# Altium integrated library Analog Devices Interface and Isolation Protection Products.IntLib: 92 symbols (part 3 of 5)
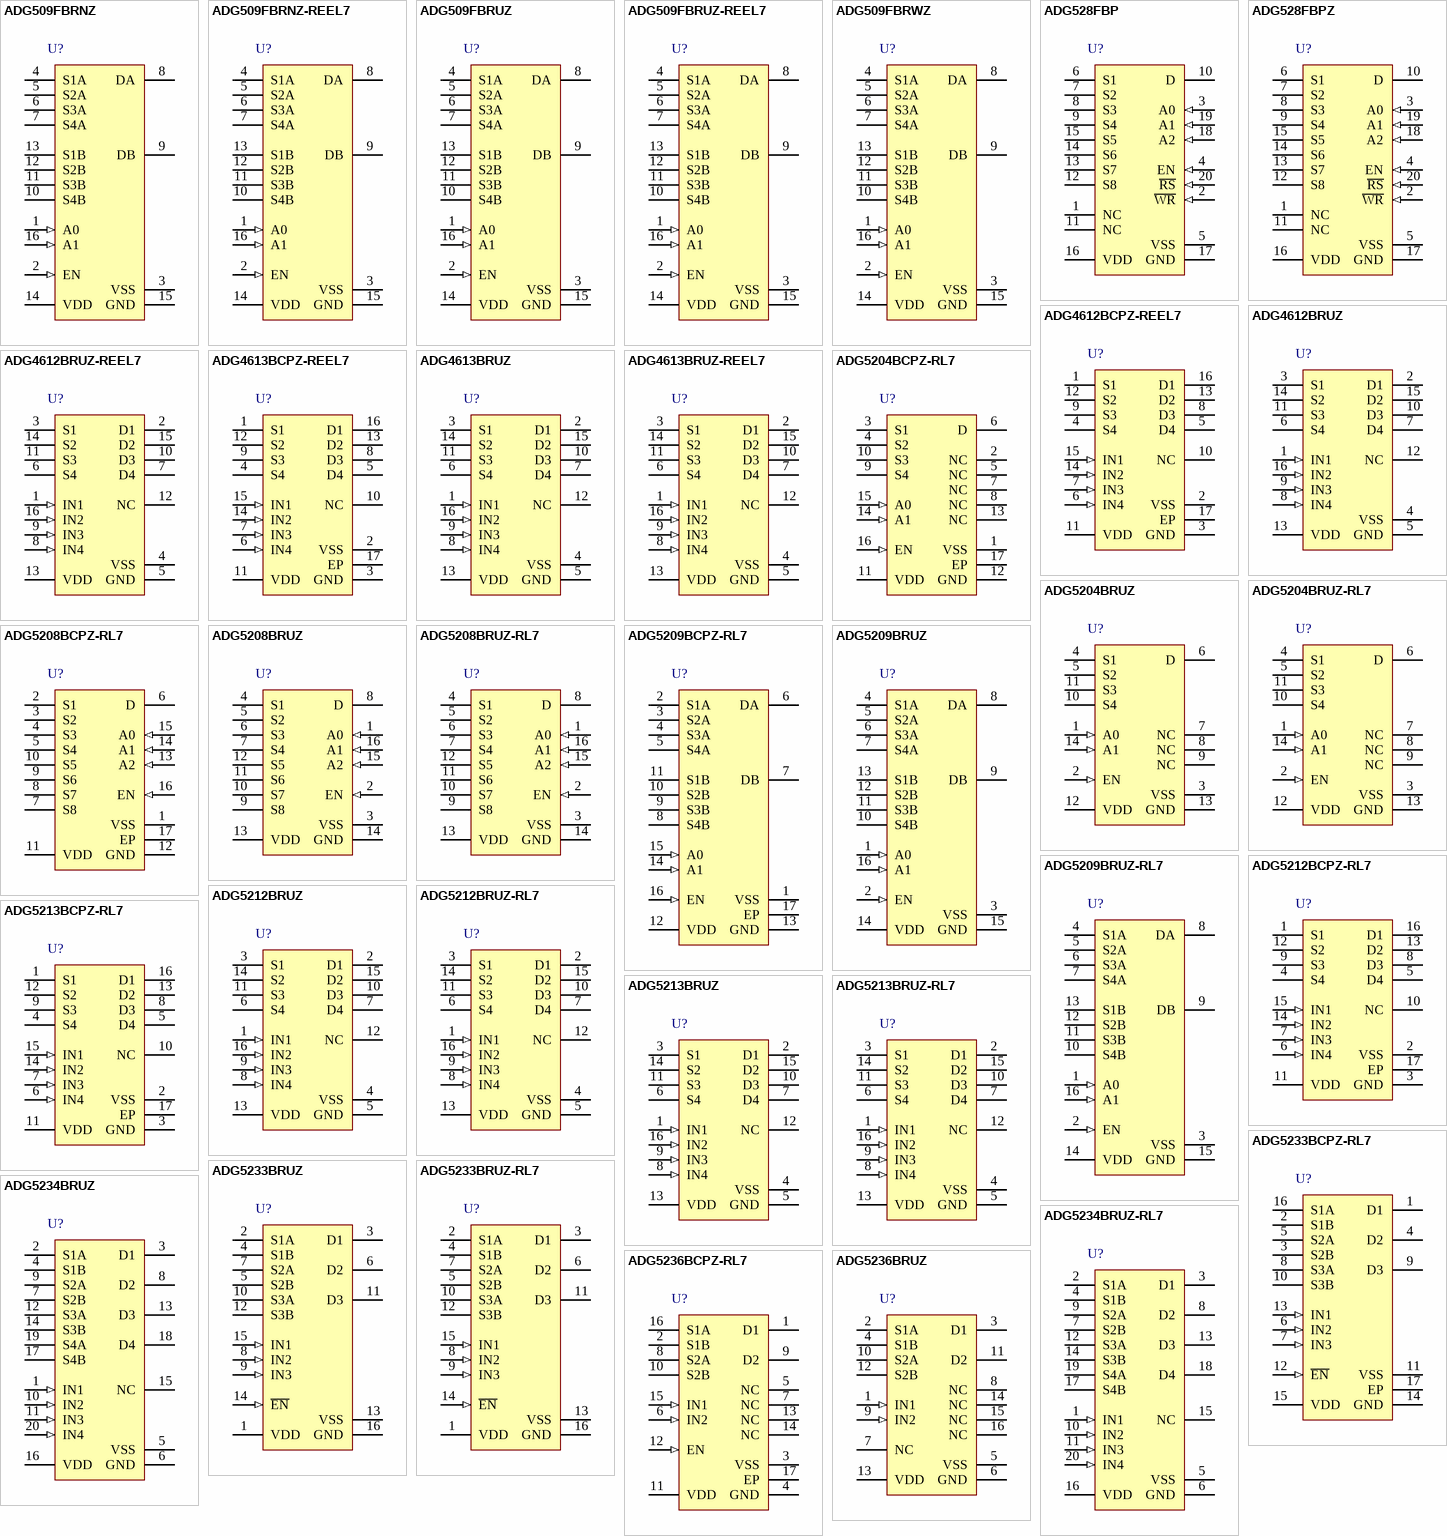
[diagram p4: symbols ADG509FBRNZ to ADG5236BRUZ]

## ADG528FBPZ
designator U?
8-Channel Fault-Protected Analog Multiplexer, -40 to 85 degC, 20-pin PLCC (P-20A), Tube; Manufacturer: Analog Devices; PartNumber: ADG528FBPZ; Ron (ohms): 300; Supply V Guar Performance: Dual_(+/-12V), Dual_(+/-15V); t transition (s): 200n; DatasheetVersion: Rev. F; PackageVersion: Nov-02; PackageReference: P-20A; PackageDescription: 20-Pin Plastic Leaded Chip Carrier, Body 8.97 x 8.97 mm, Pitch 1.27 mm; Supplier 1: Digi-Key; Supplier Part Number 1: ADG528FBPZ-ND; Supplier 2: Newark; Supplier Part Number 2: 59K1399; Supplier 3: Mouser; Supplier Part Number 3: 584-ADG528FBPZ; Packing: Tube; Mounting Technology: Surface Mount; Code_JEDEC: MO-047AA; ComponentLink1Description: Manufacturer URL; ComponentLink1URL: http://www.analog.com/en/index.html; ComponentLink2Description: Datasheet; ComponentLink2URL: http://www.analog.com/static/imported-files/data_sheets/ADG528F.pdf; ComponentLink3Description: Package Specification; ComponentLink3URL: http://www.analog.com/static/imported-files/packages/3121431516544404277643669223804694P20A.pdf
footprint ADI-P-20A_N (PLCC, 20-Leads, Body 8.965x8.965mm, Pitch 1.27mm, IPC Medium Density)
footprint ADI-P-20A_L (PLCC, 20-Leads, Body 8.965x8.965mm, Pitch 1.27mm, IPC High Density)
footprint ADI-P-20A_M (PLCC, 20-Leads, Body 8.965x8.965mm, Pitch 1.27mm, IPC Low Density)
pins: 1 NC "No Connect. This pin is open.", 2 ~{WR} (in) "Write. The W\R\ signal latches the state of the address control lines and the enable line.", 3 A0 (in) "Logic Control Input.", 4 EN (in) "Active High Digital Input. When low, the device is disabled and all switches are off. When high, Ax logic inputs determine on switches.", 5 VSS (power) "Most Negative Power Supply Potential. In single-supply applications, this pin can be connected to ground.", 6 S1 "Source Terminal 1. This pin can be an input or an output.", 7 S2 "Source Terminal 2. This pin can be an input or an output.", 8 S3 "Source Terminal 3. This pin can be an input or an output.", 9 S4 "Source Terminal 4. This pin can be an input or an output.", 10 D "Drain Terminal. This pin can be an input or an output.", 11 NC "No Connect. This pin is open.", 12 S8 "Source Terminal 8. This pin can be an input or an output.", 13 S7 "Source Terminal 7. This pin can be an input or an output.", 14 S6 "Source Terminal 6. This pin can be an input or an output.", 15 S5 "Source Terminal 5. This pin can be an input or an output.", 16 VDD (power) "Most Positive Power Supply Potential.", 17 GND (power) "Ground (0 V) Reference.", 18 A2 (in) "Logic Control Input.", 19 A1 (in) "Logic Control Input.", 20 ~{RS} (in) "Reset. The R\S\ signal clears both the address and enable data in the latches resulting in no output (all switches off)."

## ADG4612BCPZ-REEL7
designator U?
Power-Off Protection +/-5 V, +12 V, Quad SPST Switches with 5 Ohm on Resistance, -40 to 105 degC, 16-pin QFN (CP-16-22), Reel; Manufacturer: Analog Devices; PartNumber: ADG4612BCPZ-REEL7; Max Neg Supply: 5V; Max Pos Supply: 12V; Ron (ohms): 5.2, 4.5, 12.5; t ON: 73ns, 46ns, 116ns; DatasheetVersion: Rev. 0; PackageVersion: 08-16-2010-E, 09/2011; PackageReference: CP-16-22; PackageDescription: 16-Pin Lead Frame Chip Scale Package, Body 3 x 3 mm, Pitch 0.5 mm; Supplier 1: Digi-Key; Supplier Part Number 1: ADG4612BCPZ-REEL7TR-ND; Supplier 2: Digi-Key; Supplier Part Number 2: ADG4612BCPZ-REEL7CT-ND; Supplier 3: Digi-Key; Supplier Part Number 3: ADG4612BCPZ-REEL7DKR-ND; Supplier 4: Newark; Supplier Part Number 4: 27T3790; Supplier 5: Mouser; Supplier Part Number 5: 584-ADG4612BCPZ-R7; Configuration: SPST; Packing: Reel; Mounting Technology: Surface Mount; Code_JEDEC: MO-220-WEED-6; ComponentLink1Description: Manufacturer URL; ComponentLink1URL: http://www.analog.com/en/index.html; ComponentLink2Description: Datasheet; ComponentLink2URL: http://www.analog.com/static/imported-files/data_sheets/ADG4612_4613.pdf; ComponentLink3Description: Package Specification; ComponentLink3URL: http://www.analog.com/static/imported-files/packages/PKG_PDF/LFCSP(CP)/CP-16/CP_16_22.pdf
footprint ADI-CP-16-22_N (QFN, 16-Leads, Body 3x3mm, Pitch 0.5mm, Thermal Pad 1.6x1.6mm, IPC Medium Density)
footprint ADI-CP-16-22_L (QFN, 16-Leads, Body 3x3mm, Pitch 0.5mm, Thermal Pad 1.6x1.6mm, IPC High Density)
footprint ADI-CP-16-22_M (QFN, 16-Leads, Body 3x3mm, Pitch 0.5mm, Thermal Pad 1.6x1.6mm, IPC Low Density)
pins: 1 S1 "Source Terminal 1. Can be an input or output.", 2 VSS (power) "Most Negative Power Supply Potential.", 3 GND (power) "Ground (0 V) Reference.", 4 S4 "Source Terminal 4. Can be an input or output.", 5 D4 "Drain Terminal 4. Can be an input or output.", 6 IN4 (in) "Logic Control Input 4. This pin has an internal 400 k ohm pull-down resistor to GND", 7 IN3 (in) "Logic Control Input 3. This pin has an internal 400 k ohm pull-down resistor to GND.", 8 D3 "Drain Terminal 3. Can be an input or output.", 9 S3 "Source Terminal 3. Can be an input or output.", 10 NC "No Connection.", 11 VDD (power) "Most Positive Power Supply Potential.", 12 S2 "Source Terminal 2. Can be an input or output.", 13 D2 "Drain Terminal 2. Can be an input or output.", 14 IN2 (in) "Logic Control Input 2. This pin has an internal 400 k ohm pull-down resistor to GND.", 15 IN1 (in) "Logic Control Input 1. This pin has an internal 400 k ohm pull-down resistor to GND.", 16 D1 "Drain Terminal 1. Can be an input or output.", 17 EP (power) "The exposed pad is connected to the substrate GND. For best heat dissipation, it is recommended that this pad be connected to GND. If heat dissipation is not a concern, it is possible to leave the pad floating. Connecting (See Datasheet)"

## ADG4612BRUZ
designator U?
Power-Off Protection +/-5 V, +12 V, Quad SPST Switches with 5 Ohm on Resistance, -40 to 105 degC, 16-pin SOP (RU-16), Tube; Manufacturer: Analog Devices; PartNumber: ADG4612BRUZ; Max Neg Supply: 5V; Max Pos Supply: 12V; Ron (ohms): 5.2, 4.5, 12.5; t ON: 73ns, 46ns, 116ns; DatasheetVersion: Rev. 0; PackageVersion: Nov-02; PackageReference: RU-16; PackageDescription: 16-Pin Thin Shrink Small Outline Package, Body 5 x 4.4 mm, Pitch 0.65 mm; Supplier 1: Digi-Key; Supplier Part Number 1: ADG4612BRUZ-ND; Supplier 2: Farnell; Supplier Part Number 2: 2376791; Supplier 3: Farnell; Supplier Part Number 3: 2312732; Supplier 4: Newark; Supplier Part Number 4: 18T1960; Supplier 5: Mouser; Supplier Part Number 5: 584-ADG4612BRUZ; Configuration: SPST; Packing: Tube; Mounting Technology: Surface Mount; Code_JEDEC: MO-153AB; ComponentLink1Description: Manufacturer URL; ComponentLink1URL: http://www.analog.com/en/index.html; ComponentLink2Description: Datasheet; ComponentLink2URL: http://www.analog.com/static/imported-files/data_sheets/ADG4612_4613.pdf; ComponentLink3Description: Package Specification; ComponentLink3URL: http:/www.analog.com/static/imported-files/packages/36244347913743854010197452789RU16.pdf
footprint ADI-RU-16_N (SOP, 16-Leads, Body 5x4.4mm, Pitch 0.65mm, IPC Medium Density)
footprint ADI-RU-16_L (SOP, 16-Leads, Body 5x4.4mm, Pitch 0.65mm, IPC High Density)
footprint ADI-RU-16_M (SOP, 16-Leads, Body 5x4.4mm, Pitch 0.65mm, IPC Low Density)
pins: 1 IN1 (in) "Logic Control Input 1. This pin has an internal 400 k ohm pull-down resistor to GND.", 2 D1 "Drain Terminal 1. Can be an input or output.", 3 S1 "Source Terminal 1. Can be an input or output.", 4 VSS (power) "Most Negative Power Supply Potential.", 5 GND (power) "Ground (0 V) Reference.", 6 S4 "Source Terminal 4. Can be an input or output.", 7 D4 "Drain Terminal 4. Can be an input or output.", 8 IN4 (in) "Logic Control Input 4. This pin has an internal 400 k ohm pull-down resistor to GND", 9 IN3 (in) "Logic Control Input 3. This pin has an internal 400 k ohm pull-down resistor to GND.", 10 D3 "Drain Terminal 3. Can be an input or output.", 11 S3 "Source Terminal 3. Can be an input or output.", 12 NC "No Connection.", 13 VDD (power) "Most Positive Power Supply Potential.", 14 S2 "Source Terminal 2. Can be an input or output.", 15 D2 "Drain Terminal 2. Can be an input or output.", 16 IN2 (in) "Logic Control Input 2. This pin has an internal 400 k ohm pull-down resistor to GND."

## ADG4612BRUZ-REEL7
designator U?
Power-Off Protection +/-5 V, +12 V, Quad SPST Switches with 5 Ohm on Resistance, -40 to 105 degC, 16-pin SOP (RU-16), Reel; Manufacturer: Analog Devices; PartNumber: ADG4612BRUZ-REEL7; Max Neg Supply: 5V; Max Pos Supply: 12V; Ron (ohms): 5.2, 4.5, 12.5; t ON: 73ns, 46ns, 116ns; DatasheetVersion: Rev. 0; PackageVersion: Nov-02; PackageReference: RU-16; PackageDescription: 16-Pin Thin Shrink Small Outline Package, Body 5 x 4.4 mm, Pitch 0.65 mm; Supplier 1: Mouser; Supplier Part Number 1: 584-ADG4612BRUZ-R7; Configuration: SPST; Packing: Reel; Mounting Technology: Surface Mount; Code_JEDEC: MO-153AB; ComponentLink1Description: Manufacturer URL; ComponentLink1URL: http://www.analog.com/en/index.html; ComponentLink2Description: Datasheet; ComponentLink2URL: http://www.analog.com/static/imported-files/data_sheets/ADG4612_4613.pdf; ComponentLink3Description: Package Specification; ComponentLink3URL: http:/www.analog.com/static/imported-files/packages/36244347913743854010197452789RU16.pdf
footprint ADI-RU-16_N (SOP, 16-Leads, Body 5x4.4mm, Pitch 0.65mm, IPC Medium Density)
footprint ADI-RU-16_L (SOP, 16-Leads, Body 5x4.4mm, Pitch 0.65mm, IPC High Density)
footprint ADI-RU-16_M (SOP, 16-Leads, Body 5x4.4mm, Pitch 0.65mm, IPC Low Density)
pins: 1 IN1 (in) "Logic Control Input 1. This pin has an internal 400 k ohm pull-down resistor to GND.", 2 D1 "Drain Terminal 1. Can be an input or output.", 3 S1 "Source Terminal 1. Can be an input or output.", 4 VSS (power) "Most Negative Power Supply Potential.", 5 GND (power) "Ground (0 V) Reference.", 6 S4 "Source Terminal 4. Can be an input or output.", 7 D4 "Drain Terminal 4. Can be an input or output.", 8 IN4 (in) "Logic Control Input 4. This pin has an internal 400 k ohm pull-down resistor to GND", 9 IN3 (in) "Logic Control Input 3. This pin has an internal 400 k ohm pull-down resistor to GND.", 10 D3 "Drain Terminal 3. Can be an input or output.", 11 S3 "Source Terminal 3. Can be an input or output.", 12 NC "No Connection.", 13 VDD (power) "Most Positive Power Supply Potential.", 14 S2 "Source Terminal 2. Can be an input or output.", 15 D2 "Drain Terminal 2. Can be an input or output.", 16 IN2 (in) "Logic Control Input 2. This pin has an internal 400 k ohm pull-down resistor to GND."

## ADG4613BCPZ-REEL7
designator U?
Power-Off Protection +/-5 V, +12 V, Quad SPST Switches with 5 Ohm on Resistance, -40 to 105 degC, 16-pin QFN (CP-16-22), Reel; Manufacturer: Analog Devices; PartNumber: ADG4613BCPZ-REEL7; Max Neg Supply: 5V; Max Pos Supply: 12V; Ron (ohms): 5.2, 4.5, 12.5; t ON: 73ns, 46ns, 116ns; DatasheetVersion: Rev. 0; PackageVersion: 08-16-2010-E, 09/2011; PackageReference: CP-16-22; PackageDescription: 16-Pin Lead Frame Chip Scale Package, Body 3 x 3 mm, Pitch 0.5 mm; Supplier 1: Digi-Key; Supplier Part Number 1: ADG4613BCPZ-REEL7TR-ND; Supplier 2: Digi-Key; Supplier Part Number 2: ADG4613BCPZ-REEL7CT-ND; Supplier 3: Digi-Key; Supplier Part Number 3: ADG4613BCPZ-REEL7DKR-ND; Supplier 4: Mouser; Supplier Part Number 4: 584-ADG4613BCPZ-R7; Configuration: SPST; Packing: Reel; Mounting Technology: Surface Mount; Code_JEDEC: MO-220-WEED-6; ComponentLink1Description: Manufacturer URL; ComponentLink1URL: http://www.analog.com/en/index.html; ComponentLink2Description: Datasheet; ComponentLink2URL: http://www.analog.com/static/imported-files/data_sheets/ADG4612_4613.pdf; ComponentLink3Description: Package Specification; ComponentLink3URL: http://www.analog.com/static/imported-files/packages/PKG_PDF/LFCSP(CP)/CP-16/CP_16_22.pdf
footprint ADI-CP-16-22_N (QFN, 16-Leads, Body 3x3mm, Pitch 0.5mm, Thermal Pad 1.6x1.6mm, IPC Medium Density)
footprint ADI-CP-16-22_L (QFN, 16-Leads, Body 3x3mm, Pitch 0.5mm, Thermal Pad 1.6x1.6mm, IPC High Density)
footprint ADI-CP-16-22_M (QFN, 16-Leads, Body 3x3mm, Pitch 0.5mm, Thermal Pad 1.6x1.6mm, IPC Low Density)
pins: 1 S1 "Source Terminal 1. Can be an input or output.", 2 VSS (power) "Most Negative Power Supply Potential.", 3 GND (power) "Ground (0 V) Reference.", 4 S4 "Source Terminal 4. Can be an input or output.", 5 D4 "Drain Terminal 4. Can be an input or output.", 6 IN4 (in) "Logic Control Input 4. This pin has an internal 400 k ohm pull-down resistor to GND", 7 IN3 (in) "Logic Control Input 3. This pin has an internal 400 k ohm pull-down resistor to GND.", 8 D3 "Drain Terminal 3. Can be an input or output", 9 S3 "Source Terminal 3. Can be an input or output", 10 NC "No Connection.", 11 VDD (power) "Most Positive Power Supply Potential.", 12 S2 "Source Terminal 2. Can be an input or output", 13 D2 "Drain Terminal 2. Can be an input or output", 14 IN2 (in) "Logic Control Input 2. This pin has an internal 400 k ohm pull-down resistor to GND", 15 IN1 (in) "Logic Control Input 1. This pin has an internal 400 k ohm pull-down resistor to GND.", 16 D1 "Drain Terminal 1. Can be an input or output.", 17 EP (power) "The exposed pad is connected to the substrate GND. For best heat dissipation, it is recommended that this pad be connected to GND. If heat dissipation is not a concern, it is possible to leave the pad floating. Connecting (See Datasheet)"

## ADG4613BRUZ
designator U?
Power-Off Protection +/-5 V, +12 V, Quad SPST Switches with 5 Ohm on Resistance, -40 to 105 degC, 16-pin SOP (RU-16), Tube; Manufacturer: Analog Devices; PartNumber: ADG4613BRUZ; Max Neg Supply: 5V; Max Pos Supply: 12V; Ron (ohms): 5.2, 4.5, 12.5; t ON: 73ns, 46ns, 116ns; DatasheetVersion: Rev. 0; PackageVersion: Nov-02; PackageReference: RU-16; PackageDescription: 16-Pin Thin Shrink Small Outline Package, Body 5 x 4.4 mm, Pitch 0.65 mm; Supplier 1: Digi-Key; Supplier Part Number 1: ADG4613BRUZ-ND; Supplier 2: Mouser; Supplier Part Number 2: 584-ADG4613BRUZ; Configuration: SPST; Packing: Tube; Mounting Technology: Surface Mount; Code_JEDEC: MO-153AB; ComponentLink1Description: Manufacturer URL; ComponentLink1URL: http://www.analog.com/en/index.html; ComponentLink2Description: Datasheet; ComponentLink2URL: http://www.analog.com/static/imported-files/data_sheets/ADG4612_4613.pdf; ComponentLink3Description: Package Specification; ComponentLink3URL: http:/www.analog.com/static/imported-files/packages/36244347913743854010197452789RU16.pdf
footprint ADI-RU-16_N (SOP, 16-Leads, Body 5x4.4mm, Pitch 0.65mm, IPC Medium Density)
footprint ADI-RU-16_L (SOP, 16-Leads, Body 5x4.4mm, Pitch 0.65mm, IPC High Density)
footprint ADI-RU-16_M (SOP, 16-Leads, Body 5x4.4mm, Pitch 0.65mm, IPC Low Density)
pins: 1 IN1 (in) "Logic Control Input 1. This pin has an internal 400 k ohm pull-down resistor to GND.", 2 D1 "Drain Terminal 1. Can be an input or output.", 3 S1 "Source Terminal 1. Can be an input or output.", 4 VSS (power) "Most Negative Power Supply Potential.", 5 GND (power) "Ground (0 V) Reference.", 6 S4 "Source Terminal 4. Can be an input or output.", 7 D4 "Drain Terminal 4. Can be an input or output.", 8 IN4 (in) "Logic Control Input 4. This pin has an internal 400 k ohm pull-down resistor to GND.", 9 IN3 (in) "Logic Control Input 3. This pin has an internal 400 k ohm pull-down resistor to GND.", 10 D3 "Drain Terminal 3. Can be an input or output.", 11 S3 "Source Terminal 3. Can be an input or output.", 12 NC "No Connection.", 13 VDD (power) "Most Positive Power Supply Potential.", 14 S2 "Source Terminal 2. Can be an input or output.", 15 D2 "Drain Terminal 2. Can be an input or output.", 16 IN2 (in) "Logic Control Input 2. This pin has an internal 400 k ohm pull-down resistor to GND."

## ADG4613BRUZ-REEL7
designator U?
Power-Off Protection +/-5 V, +12 V, Quad SPST Switches with 5 Ohm on Resistance, -40 to 105 degC, 16-pin SOP (RU-16), Reel; Manufacturer: Analog Devices; PartNumber: ADG4613BRUZ-REEL7; Max Neg Supply: 5V; Max Pos Supply: 12V; Ron (ohms): 5.2, 4.5, 12.5; t ON: 73ns, 46ns, 116ns; DatasheetVersion: Rev. 0; PackageVersion: Nov-02; PackageReference: RU-16; PackageDescription: 16-Pin Thin Shrink Small Outline Package, Body 5 x 4.4 mm, Pitch 0.65 mm; Supplier 1: Mouser; Supplier Part Number 1: 584-ADG4613BRUZ-R7; Configuration: SPST; Packing: Reel; Mounting Technology: Surface Mount; Code_JEDEC: MO-153AB; ComponentLink1Description: Manufacturer URL; ComponentLink1URL: http://www.analog.com/en/index.html; ComponentLink2Description: Datasheet; ComponentLink2URL: http://www.analog.com/static/imported-files/data_sheets/ADG4612_4613.pdf; ComponentLink3Description: Package Specification; ComponentLink3URL: http:/www.analog.com/static/imported-files/packages/36244347913743854010197452789RU16.pdf
footprint ADI-RU-16_N (SOP, 16-Leads, Body 5x4.4mm, Pitch 0.65mm, IPC Medium Density)
footprint ADI-RU-16_L (SOP, 16-Leads, Body 5x4.4mm, Pitch 0.65mm, IPC High Density)
footprint ADI-RU-16_M (SOP, 16-Leads, Body 5x4.4mm, Pitch 0.65mm, IPC Low Density)
pins: 1 IN1 (in) "Logic Control Input 1. This pin has an internal 400 k ohm pull-down resistor to GND.", 2 D1 "Drain Terminal 1. Can be an input or output.", 3 S1 "Source Terminal 1. Can be an input or output.", 4 VSS (power) "Most Negative Power Supply Potential.", 5 GND (power) "Ground (0 V) Reference.", 6 S4 "Source Terminal 4. Can be an input or output.", 7 D4 "Drain Terminal 4. Can be an input or output.", 8 IN4 (in) "Logic Control Input 4. This pin has an internal 400 k ohm pull-down resistor to GND.", 9 IN3 (in) "Logic Control Input 3. This pin has an internal 400 k ohm pull-down resistor to GND.", 10 D3 "Drain Terminal 3. Can be an input or output.", 11 S3 "Source Terminal 3. Can be an input or output.", 12 NC "No Connection.", 13 VDD (power) "Most Positive Power Supply Potential.", 14 S2 "Source Terminal 2. Can be an input or output.", 15 D2 "Drain Terminal 2. Can be an input or output.", 16 IN2 (in) "Logic Control Input 2. This pin has an internal 400 k ohm pull-down resistor to GND."

## ADG5204BCPZ-RL7
designator U?
High Voltage, Latch-Up Proof, 4-Channel Multiplexers, -40 to 125 degC, 16-pin QFN (CP-16-17), Reel; Manufacturer: Analog Devices; PartNumber: ADG5204BCPZ-RL7; Bandwidth (Hz): 136M, 150M, 106M, 136M; Max Analog Signal Range: Vss to Vdd; Power Diss (W): 1.1m; Ron (ohms): 160; Supply V Guar Performance: Dual_(+/-15V), Dual_(+/-20V), Single_(+12V), Single_(+36V); t transition (s): 175n; DatasheetVersion: Rev. 0; PackageVersion: 08-16-2010-C; PackageReference: CP-16-17; PackageDescription: 16-Pin Lead Frame Chip Scale Package, Body 4 x 4 mm, Pitch 0.65 mm; Supplier 1: Digi-Key; Supplier Part Number 1: ADG5204BCPZ-RL7TR-ND; Supplier 2: Digi-Key; Supplier Part Number 2: ADG5204BCPZ-RL7CT-ND; Supplier 3: Digi-Key; Supplier Part Number 3: ADG5204BCPZ-RL7DKR-ND; Supplier 4: Mouser; Supplier Part Number 4: 584-ADG5204BCPZ-R7; Packing: Reel; Mounting Technology: Surface Mount; Code_JEDEC: MO-220-WGGC; ComponentLink1Description: Manufacturer URL; ComponentLink1URL: http://www.analog.com/en/index.html; ComponentLink2Description: Datasheet; ComponentLink2URL: http://www.analog.com/static/imported-files/data_sheets/ADG5204.pdf; ComponentLink3Description: Package Specification; ComponentLink3URL: http://www.analog.com/static/imported-files/packages/PKG_PDF/LFCSP(CP)/CP_16_17.pdf
footprint ADI-CP-16-17_N (QFN, 16-Leads, Body 4x4mm, Pitch 0.65mm, Thermal Pad 2.60x2.60mm, IPC Medium Density)
footprint ADI-CP-16-17_L (QFN, 16-Leads, Body 4x4mm, Pitch 0.65mm, Thermal Pad 2.60x2.60mm, IPC High Density)
footprint ADI-CP-16-17_M (QFN, 16-Leads, Body 4x4mm, Pitch 0.65mm, Thermal Pad 2.60x2.60mm, IPC Low Density)
pins: 1 VSS (power) "Most Negative Power Supply Potential.", 2 NC "No Connect. These pins are open.", 3 S1 "Source Terminal. Can be an input or an output.", 4 S2 "Source Terminal. Can be an input or an output.", 5 NC "No Connect. These pins are open.", 6 D "Drain Terminal. Can be an input or an output.", 7 NC "No Connect. These pins are open.", 8 NC "No Connect. These pins are open.", 9 S4 "Source Terminal. Can be an input or an output.", 10 S3 "Source Terminal. Can be an input or an output.", 11 VDD (power) "Most Positive Power Supply Potential.", 12 GND (power) "Ground (0 V) Reference.", 13 NC "No Connect. These pins are open.", 14 A1 (in) "Logic Control Input", 15 A0 (in) "Logic Control Input.", 16 EN (in) "Active High Digital Input. When this pin is low, the device is disabled and all switches are off. When this pin is high, the Ax logic inputs determine the on switches.", 17 EP (power) "Exposed Pad. The exposed pad is connected internally. For increased reliability of the solder joints and maximum thermal capability, it is recommended that the pad be soldered to the substrate, VSS."

## ADG5204BRUZ
designator U?
High Voltage, Latch-Up Proof, 4-Channel Multiplexers, -40 to 125 degC, 14-pin SOP (RU-14), Tube; Manufacturer: Analog Devices; PartNumber: ADG5204BRUZ; Bandwidth (Hz): 136M, 150M, 106M, 136M; Max Analog Signal Range: Vss to Vdd; Power Diss (W): 1.1m; Ron (ohms): 160; Supply V Guar Performance: Dual_(+/-15V), Dual_(+/-20V), Single_(+12V), Single_(+36V); t transition (s): 175n; DatasheetVersion: Rev. 0; PackageVersion: Aug-02; PackageReference: RU-14; PackageDescription: 14-Pin Thin Shrink Small Outline Package, Body 5 x 4.4 mm, Pitch 0.65 mm; Supplier 1: Digi-Key; Supplier Part Number 1: ADG5204BRUZ-ND; Supplier 2: Farnell; Supplier Part Number 2: 1944983; Supplier 3: Newark; Supplier Part Number 3: 51T1955; Supplier 4: Mouser; Supplier Part Number 4: 584-ADG5204BRUZ; Packing: Tube; Mounting Technology: Surface Mount; Code_JEDEC: MO-153AB-1; ComponentLink1Description: Manufacturer URL; ComponentLink1URL: http://www.analog.com/en/index.html; ComponentLink2Description: Datasheet; ComponentLink2URL: http://www.analog.com/static/imported-files/data_sheets/ADG5204.pdf; ComponentLink3Description: Package Specification; ComponentLink3URL: http://www.analog.com/static/imported-files/packages/36057385283879153717235186773RU14.pdf
footprint ADI-RU-14_N (SOP, 14-Leads, Body 5x4.4mm, Pitch 0.65mm, IPC Medium Density)
footprint ADI-RU-14_L (SOP, 14-Leads, Body 5x4.4mm, Pitch 0.65mm, IPC High Density)
footprint ADI-RU-14_M (SOP, 14-Leads, Body 5x4.4mm, Pitch 0.65mm, IPC Low Density)
pins: 1 A0 (in) "Logic Control Input.", 2 EN (in) "Active High Digital Input. When this pin is low, the device is disabled and all switches are off. When this pin is high, the Ax logic inputs determine the on switches.", 3 VSS (power) "Most Negative Power Supply Potential.", 4 S1 "Source Terminal. Can be an input or an output.", 5 S2 "Source Terminal. Can be an input or an output.", 6 D "Drain Terminal. Can be an input or an output.", 7 NC "No Connect. These pins are open.", 8 NC "No Connect. These pins are open.", 9 NC "No Connect. These pins are open.", 10 S4 "Source Terminal. Can be an input or an output.", 11 S3 "Source Terminal. Can be an input or an output.", 12 VDD (power) "Most Positive Power Supply Potential.", 13 GND (power) "Ground (0 V) Reference.", 14 A1 (in) "Logic Control Input."

## ADG5204BRUZ-RL7
designator U?
High Voltage, Latch-Up Proof, 4-Channel Multiplexers, -40 to 125 degC, 14-pin SOP (RU-14), Reel; Manufacturer: Analog Devices; PartNumber: ADG5204BRUZ-RL7; Bandwidth (Hz): 136M, 150M, 106M, 136M; Max Analog Signal Range: Vss to Vdd; Power Diss (W): 1.1m; Ron (ohms): 160; Supply V Guar Performance: Dual_(+/-15V), Dual_(+/-20V), Single_(+12V), Single_(+36V); t transition (s): 175n; DatasheetVersion: Rev. 0; PackageVersion: Aug-02; PackageReference: RU-14; PackageDescription: 14-Pin Thin Shrink Small Outline Package, Body 5 x 4.4 mm, Pitch 0.65 mm; Supplier 1: Digi-Key; Supplier Part Number 1: ADG5204BRUZ-RL7-ND; Supplier 2: Mouser; Supplier Part Number 2: 584-ADG5204BRUZ-R7; Packing: Reel; Mounting Technology: Surface Mount; Code_JEDEC: MO-153AB-1; ComponentLink1Description: Manufacturer URL; ComponentLink1URL: http://www.analog.com/en/index.html; ComponentLink2Description: Datasheet; ComponentLink2URL: http://www.analog.com/static/imported-files/data_sheets/ADG5204.pdf; ComponentLink3Description: Package Specification; ComponentLink3URL: http://www.analog.com/static/imported-files/packages/36057385283879153717235186773RU14.pdf
footprint ADI-RU-14_N (SOP, 14-Leads, Body 5x4.4mm, Pitch 0.65mm, IPC Medium Density)
footprint ADI-RU-14_L (SOP, 14-Leads, Body 5x4.4mm, Pitch 0.65mm, IPC High Density)
footprint ADI-RU-14_M (SOP, 14-Leads, Body 5x4.4mm, Pitch 0.65mm, IPC Low Density)
pins: 1 A0 (in) "Logic Control Input.", 2 EN (in) "Active High Digital Input. When this pin is low, the device is disabled and all switches are off. When this pin is high, the Ax logic inputs determine the on switches.", 3 VSS (power) "Most Negative Power Supply Potential.", 4 S1 "Source Terminal. Can be an input or an output.", 5 S2 "Source Terminal. Can be an input or an output.", 6 D "Drain Terminal. Can be an input or an output.", 7 NC "No Connect. These pins are open.", 8 NC "No Connect. These pins are open.", 9 NC "No Connect. These pins are open.", 10 S4 "Source Terminal. Can be an input or an output.", 11 S3 "Source Terminal. Can be an input or an output.", 12 VDD (power) "Most Positive Power Supply Potential.", 13 GND (power) "Ground (0 V) Reference.", 14 A1 (in) "Logic Control Input."

## ADG5208BCPZ-RL7
designator U?
High Voltage, Latch-Up Proof, 8-Channel Multiplexers, -40 to 125 degC, 16-pin QFN (CP-16-17), Reel; Manufacturer: Analog Devices; PartNumber: ADG5208BCPZ-RL7; Bandwidth (Hz): 54M, 60M, 60M, 65M; Max Analog Signal Range: Vss to Vdd; Power Diss (W): 1.1m; Ron (ohms): 160; Supply V Guar Performance: Dual_(+/-15V), Dual_(+/-20V), Single_(+12V), Single_(+36V); t transition (s): 170n; DatasheetVersion: Rev. A; PackageVersion: 08-16-2010-C; PackageReference: CP-16-17; PackageDescription: 16-Pin Lead Frame Chip Scale Package, Body 4 x 4 mm, Pitch 0.65 mm; Supplier 1: Digi-Key; Supplier Part Number 1: ADG5208BCPZ-RL7TR-ND; Supplier 2: Digi-Key; Supplier Part Number 2: ADG5208BCPZ-RL7CT-ND; Supplier 3: Digi-Key; Supplier Part Number 3: ADG5208BCPZ-RL7DKR-ND; Supplier 4: Mouser; Supplier Part Number 4: 584-ADG5208BCPZ-R7; Packing: Reel; Mounting Technology: Surface Mount; Code_JEDEC: MO-220-WGGC; ComponentLink1Description: Manufacturer URL; ComponentLink1URL: http://www.analog.com/en/index.html; ComponentLink2Description: Datasheet; ComponentLink2URL: http://www.analog.com/static/imported-files/data_sheets/ADG5208_5209.pdf; ComponentLink3Description: Package Specification; ComponentLink3URL: http://www.analog.com/static/imported-files/packages/PKG_PDF/LFCSP(CP)/CP_16_17.pdf
footprint ADI-CP-16-17_N (QFN, 16-Leads, Body 4x4mm, Pitch 0.65mm, Thermal Pad 2.60x2.60mm, IPC Medium Density)
footprint ADI-CP-16-17_L (QFN, 16-Leads, Body 4x4mm, Pitch 0.65mm, Thermal Pad 2.60x2.60mm, IPC High Density)
footprint ADI-CP-16-17_M (QFN, 16-Leads, Body 4x4mm, Pitch 0.65mm, Thermal Pad 2.60x2.60mm, IPC Low Density)
pins: 1 VSS (power) "Most Negative Power Supply Potential. In single-supply applications, this pin can be connected to ground.", 2 S1 "Source Terminal 1. This pin can be an input or an output.", 3 S2 "Source Terminal 2. This pin can be an input or an output.", 4 S3 "Source Terminal 3. This pin can be an input or an output.", 5 S4 "Source Terminal 4. This pin can be an input or an output.", 6 D "Drain Terminal. This pin can be an input or an output.", 7 S8 "Source Terminal 8. This pin can be an input or an output.", 8 S7 "Source Terminal 7. This pin can be an input or an output.", 9 S6 "Source Terminal 6. This pin can be an input or an output.", 10 S5 "Source Terminal 5. This pin can be an input or an output.", 11 VDD (power) "Most Positive Power Supply Potential.", 12 GND (power) "Ground (0 V) Reference.", 13 A2 (in) "Logic Control Input.", 14 A1 (in) "Logic Control Input.", 15 A0 (in) "Logic Control Input.", 16 EN (in) "Active High Digital Input. When low, the device is disabled and all switches are off. When high, the Ax logic inputs determine the on switches.", 17 EP (power) "The exposed pad is connected internally. For increased reliability of the solder joints and maximum thermal capability, it is recommended that the pad be soldered to the substrate, VSS."

## ADG5208BRUZ
designator U?
High Voltage, Latch-Up Proof, 8-Channel Multiplexers, -40 to 125 degC, 16-pin SOP (RU-16), Tube; Manufacturer: Analog Devices; PartNumber: ADG5208BRUZ; Bandwidth (Hz): 54M, 60M, 60M, 65M; Max Analog Signal Range: Vss to Vdd; Power Diss (W): 1.1m; Ron (ohms): 160; Supply V Guar Performance: Dual_(+/-15V), Dual_(+/-20V), Single_(+12V), Single_(+36V); t transition (s): 170n; DatasheetVersion: Rev. A; PackageVersion: Nov-02; PackageReference: RU-16; PackageDescription: 16-Pin Thin Shrink Small Outline Package, Body 5 x 4.4 mm, Pitch 0.65 mm; Supplier 1: Digi-Key; Supplier Part Number 1: ADG5208BRUZ-ND; Supplier 2: Farnell; Supplier Part Number 2: 2008777; Supplier 3: Newark; Supplier Part Number 3: 61T7386; Supplier 4: Newark; Supplier Part Number 4: 58T8823; Supplier 5: Mouser; Supplier Part Number 5: 584-ADG5208BRUZ; Packing: Tube; Mounting Technology: Surface Mount; Code_JEDEC: MO-153AB; ComponentLink1Description: Manufacturer URL; ComponentLink1URL: http://www.analog.com/en/index.html; ComponentLink2Description: Datasheet; ComponentLink2URL: http://www.analog.com/static/imported-files/data_sheets/ADG5208_5209.pdf; ComponentLink3Description: Package Specification; ComponentLink3URL: http:/www.analog.com/static/imported-files/packages/36244347913743854010197452789RU16.pdf
footprint ADI-RU-16_N (SOP, 16-Leads, Body 5x4.4mm, Pitch 0.65mm, IPC Medium Density)
footprint ADI-RU-16_L (SOP, 16-Leads, Body 5x4.4mm, Pitch 0.65mm, IPC High Density)
footprint ADI-RU-16_M (SOP, 16-Leads, Body 5x4.4mm, Pitch 0.65mm, IPC Low Density)
pins: 1 A0 (in), 2 EN (in), 3 VSS (power), 4 S1, 5 S2, 6 S3, 7 S4, 8 D, 9 S8, 10 S7, 11 S6, 12 S5, 13 VDD (power), 14 GND (power), 15 A2 (in), 16 A1 (in)

## ADG5208BRUZ-RL7
designator U?
High Voltage, Latch-Up Proof, 8-Channel Multiplexers, -40 to 125 degC, 16-pin SOP (RU-16), Reel; Manufacturer: Analog Devices; PartNumber: ADG5208BRUZ-RL7; Bandwidth (Hz): 54M, 60M, 60M, 65M; Max Analog Signal Range: Vss to Vdd; Power Diss (W): 1.1m; Ron (ohms): 160; Supply V Guar Performance: Dual_(+/-15V), Dual_(+/-20V), Single_(+12V), Single_(+36V); t transition (s): 170n; DatasheetVersion: Rev. A; PackageVersion: Nov-02; PackageReference: RU-16; PackageDescription: 16-Pin Thin Shrink Small Outline Package, Body 5 x 4.4 mm, Pitch 0.65 mm; Supplier 1: Digi-Key; Supplier Part Number 1: ADG5208BRUZ-RL7-ND; Supplier 2: Mouser; Supplier Part Number 2: 584-ADG5208BRUZ-R7; Packing: Reel; Mounting Technology: Surface Mount; Code_JEDEC: MO-153AB; ComponentLink1Description: Manufacturer URL; ComponentLink1URL: http://www.analog.com/en/index.html; ComponentLink2Description: Datasheet; ComponentLink2URL: http://www.analog.com/static/imported-files/data_sheets/ADG5208_5209.pdf; ComponentLink3Description: Package Specification; ComponentLink3URL: http:/www.analog.com/static/imported-files/packages/36244347913743854010197452789RU16.pdf
footprint ADI-RU-16_N (SOP, 16-Leads, Body 5x4.4mm, Pitch 0.65mm, IPC Medium Density)
footprint ADI-RU-16_L (SOP, 16-Leads, Body 5x4.4mm, Pitch 0.65mm, IPC High Density)
footprint ADI-RU-16_M (SOP, 16-Leads, Body 5x4.4mm, Pitch 0.65mm, IPC Low Density)
pins: 1 A0 (in), 2 EN (in), 3 VSS (power), 4 S1, 5 S2, 6 S3, 7 S4, 8 D, 9 S8, 10 S7, 11 S6, 12 S5, 13 VDD (power), 14 GND (power), 15 A2 (in), 16 A1 (in)

## ADG5209BCPZ-RL7
designator U?
High Voltage, Latch-Up Proof, 4-Channel Multiplexers, -40 to 125 degC, 16-pin QFN (CP-16-17), Reel; Manufacturer: Analog Devices; PartNumber: ADG5209BCPZ-RL7; Bandwidth (Hz): 133M, 130M, 120M, 130M; Max Analog Signal Range: Vss to Vdd; Power Diss (W): 1.1m; Ron (ohms): 160; Supply V Guar Performance: Dual_(+/-15V), Dual_(+/-20V), Single_(+12V), Single_(+36V); t transition (s): 170n; DatasheetVersion: Rev. A; PackageVersion: 08-16-2010-C; PackageReference: CP-16-17; PackageDescription: 16-Pin Lead Frame Chip Scale Package, Body 4 x 4 mm, Pitch 0.65 mm; Supplier 1: Digi-Key; Supplier Part Number 1: ADG5209BCPZ-RL7TR-ND; Supplier 2: Digi-Key; Supplier Part Number 2: ADG5209BCPZ-RL7CT-ND; Supplier 3: Digi-Key; Supplier Part Number 3: ADG5209BCPZ-RL7DKR-ND; Supplier 4: Mouser; Supplier Part Number 4: 584-ADG5209BCPZ-R7; Packing: Reel; Mounting Technology: Surface Mount; Code_JEDEC: MO-220-WGGC; ComponentLink1Description: Manufacturer URL; ComponentLink1URL: http://www.analog.com/en/index.html; ComponentLink2Description: Datasheet; ComponentLink2URL: http://www.analog.com/static/imported-files/data_sheets/ADG5208_5209.pdf; ComponentLink3Description: Package Specification; ComponentLink3URL: http://www.analog.com/static/imported-files/packages/PKG_PDF/LFCSP(CP)/CP_16_17.pdf
footprint ADI-CP-16-17_N (QFN, 16-Leads, Body 4x4mm, Pitch 0.65mm, Thermal Pad 2.60x2.60mm, IPC Medium Density)
footprint ADI-CP-16-17_L (QFN, 16-Leads, Body 4x4mm, Pitch 0.65mm, Thermal Pad 2.60x2.60mm, IPC High Density)
footprint ADI-CP-16-17_M (QFN, 16-Leads, Body 4x4mm, Pitch 0.65mm, Thermal Pad 2.60x2.60mm, IPC Low Density)
pins: 1 VSS (power) "Most Negative Power Supply Potential. In single-supply applications, this pin can be connected to ground.", 2 S1A "Source Terminal 1A. This pin can be an input or an output.", 3 S2A "Source Terminal 2A. This pin can be an input or an output.", 4 S3A "Source Terminal 3A. This pin can be an input or an output.", 5 S4A "Source Terminal 4A. This pin can be an input or an output.", 6 DA "Drain Terminal A. This pin can be an input or an output.", 7 DB "Drain Terminal B. This pin can be an input or an output.", 8 S4B "Source Terminal 4B. This pin can be an input or an output.", 9 S3B "Source Terminal 3B. This pin can be an input or an output.", 10 S2B "Source Terminal 2B. This pin can be an input or an output.", 11 S1B "Source Terminal 1B. This pin can be an input or an output.", 12 VDD (power) "Most Positive Power Supply Potential.", 13 GND (power) "Ground (0 V) Reference.", 14 A1 (in) "Logic Control Input.", 15 A0 (in) "Logic Control Input.", 16 EN (in) "Active High Digital Input. When low, the device is disabled and all switches are off. When high, Ax logic inputs determine the on switches.", 17 EP (power) "The exposed pad is connected internally. For increased reliability of the solder joints and maximum thermal capability, it is recommended that the pad be soldered to the substrate, VSS."

## ADG5209BRUZ
designator U?
High Voltage, Latch-Up Proof, 4-Channel Multiplexers, -40 to 125 degC, 16-pin SOP (RU-16), Tube; Manufacturer: Analog Devices; PartNumber: ADG5209BRUZ; Bandwidth (Hz): 133M, 130M, 120M, 130M; Max Analog Signal Range: Vss to Vdd; Power Diss (W): 1.1m; Ron (ohms): 160; Supply V Guar Performance: Dual_(+/-15V), Dual_(+/-20V), Single_(+12V), Single_(+36V); t transition (s): 170n; DatasheetVersion: Rev. A; PackageVersion: Nov-02; PackageReference: RU-16; PackageDescription: 16-Pin Thin Shrink Small Outline Package, Body 5 x 4.4 mm, Pitch 0.65 mm; Supplier 1: Digi-Key; Supplier Part Number 1: ADG5209BRUZ-ND; Supplier 2: Farnell; Supplier Part Number 2: 2008776; Supplier 3: Newark; Supplier Part Number 3: 58T8825; Supplier 4: Mouser; Supplier Part Number 4: 584-ADG5209BRUZ; Packing: Tube; Mounting Technology: Surface Mount; Code_JEDEC: MO-153AB; ComponentLink1Description: Manufacturer URL; ComponentLink1URL: http://www.analog.com/en/index.html; ComponentLink2Description: Datasheet; ComponentLink2URL: http://www.analog.com/static/imported-files/data_sheets/ADG5208_5209.pdf; ComponentLink3Description: Package Specification; ComponentLink3URL: http:/www.analog.com/static/imported-files/packages/36244347913743854010197452789RU16.pdf
footprint ADI-RU-16_N (SOP, 16-Leads, Body 5x4.4mm, Pitch 0.65mm, IPC Medium Density)
footprint ADI-RU-16_L (SOP, 16-Leads, Body 5x4.4mm, Pitch 0.65mm, IPC High Density)
footprint ADI-RU-16_M (SOP, 16-Leads, Body 5x4.4mm, Pitch 0.65mm, IPC Low Density)
pins: 1 A0 (in) "Logic Control Input.", 2 EN (in) "Active High Digital Input. When low, the device is disabled and all switches are off. When high, Ax logic inputs determine the on switches.", 3 VSS (power) "Most Negative Power Supply Potential. In single-supply applications, this pin can be connected to ground.", 4 S1A "Source Terminal 1A. This pin can be an input or an output.", 5 S2A "Source Terminal 2A. This pin can be an input or an output.", 6 S3A "Source Terminal 3A. This pin can be an input or an output.", 7 S4A "Source Terminal 4A. This pin can be an input or an output.", 8 DA "Drain Terminal A. This pin can be an input or an output.", 9 DB "Drain Terminal B. This pin can be an input or an output.", 10 S4B "Source Terminal 4B. This pin can be an input or an output.", 11 S3B "Source Terminal 3B. This pin can be an input or an output.", 12 S2B "Source Terminal 2B. This pin can be an input or an output.", 13 S1B "Source Terminal 1B. This pin can be an input or an output.", 14 VDD (power) "Most Positive Power Supply Potential.", 15 GND (power) "Ground (0 V) Reference.", 16 A1 (in) "Logic Control Input."

## ADG5209BRUZ-RL7
designator U?
High Voltage, Latch-Up Proof, 4-Channel Multiplexers, -40 to 125 degC, 16-pin SOP (RU-16), Reel; Manufacturer: Analog Devices; PartNumber: ADG5209BRUZ-RL7; Bandwidth (Hz): 133M, 130M, 120M, 130M; Max Analog Signal Range: Vss to Vdd; Power Diss (W): 1.1m; Ron (ohms): 160; Supply V Guar Performance: Dual_(+/-15V), Dual_(+/-20V), Single_(+12V), Single_(+36V); t transition (s): 170n; DatasheetVersion: Rev. A; PackageVersion: Nov-02; PackageReference: RU-16; PackageDescription: 16-Pin Thin Shrink Small Outline Package, Body 5 x 4.4 mm, Pitch 0.65 mm; Supplier 1: Digi-Key; Supplier Part Number 1: ADG5209BRUZ-RL7-ND; Supplier 2: Mouser; Supplier Part Number 2: 584-ADG5209BRUZ-R7; Packing: Reel; Mounting Technology: Surface Mount; Code_JEDEC: MO-153AB; ComponentLink1Description: Manufacturer URL; ComponentLink1URL: http://www.analog.com/en/index.html; ComponentLink2Description: Datasheet; ComponentLink2URL: http://www.analog.com/static/imported-files/data_sheets/ADG5208_5209.pdf; ComponentLink3Description: Package Specification; ComponentLink3URL: http:/www.analog.com/static/imported-files/packages/36244347913743854010197452789RU16.pdf
footprint ADI-RU-16_N (SOP, 16-Leads, Body 5x4.4mm, Pitch 0.65mm, IPC Medium Density)
footprint ADI-RU-16_L (SOP, 16-Leads, Body 5x4.4mm, Pitch 0.65mm, IPC High Density)
footprint ADI-RU-16_M (SOP, 16-Leads, Body 5x4.4mm, Pitch 0.65mm, IPC Low Density)
pins: 1 A0 (in) "Logic Control Input.", 2 EN (in) "Active High Digital Input. When low, the device is disabled and all switches are off. When high, Ax logic inputs determine the on switches.", 3 VSS (power) "Most Negative Power Supply Potential. In single-supply applications, this pin can be connected to ground.", 4 S1A "Source Terminal 1A. This pin can be an input or an output.", 5 S2A "Source Terminal 2A. This pin can be an input or an output.", 6 S3A "Source Terminal 3A. This pin can be an input or an output.", 7 S4A "Source Terminal 4A. This pin can be an input or an output.", 8 DA "Drain Terminal A. This pin can be an input or an output.", 9 DB "Drain Terminal B. This pin can be an input or an output.", 10 S4B "Source Terminal 4B. This pin can be an input or an output.", 11 S3B "Source Terminal 3B. This pin can be an input or an output.", 12 S2B "Source Terminal 2B. This pin can be an input or an output.", 13 S1B "Source Terminal 1B. This pin can be an input or an output.", 14 VDD (power) "Most Positive Power Supply Potential.", 15 GND (power) "Ground (0 V) Reference.", 16 A1 (in) "Logic Control Input."

## ADG5212BCPZ-RL7
designator U?
High Voltage Latch-Up Proof, Quad SPST Switches, 160 Ohm Ron, 16-pin QFN (CP-16-17), Reel; Manufacturer: Analog Devices; PartNumber: ADG5212BCPZ-RL7; # Sw Functions: 4; Max Neg Supply: -22V; Max Pos Supply: +40V; Ron (ohms): 160, 140, 350, 150; t ON: 175ns, 155ns, 235ns, 190ns; DatasheetVersion: Rev. 0; PackageVersion: 08-16-2010-C; PackageReference: CP-16-17; PackageDescription: 16-Pin Lead Frame Chip Scale Package, Body 4 x 4 mm, Pitch 0.65 mm; Supplier 1: Digi-Key; Supplier Part Number 1: ADG5212BCPZ-RL7TR-ND; Supplier 2: Digi-Key; Supplier Part Number 2: ADG5212BCPZ-RL7CT-ND; Supplier 3: Digi-Key; Supplier Part Number 3: ADG5212BCPZ-RL7DKR-ND; Supplier 4: Mouser; Supplier Part Number 4: 584-ADG5212BCPZ-R7; Configuration: SPST; Packing: Reel; Mounting Technology: Surface Mount; Code_JEDEC: MO-220-WGGC; ComponentLink1Description: Manufacturer URL; ComponentLink1URL: http://www.analog.com/en/index.html; ComponentLink2Description: Datasheet; ComponentLink2URL: http://www.analog.com/static/imported-files/data_sheets/ADG5212_5213.pdf; ComponentLink3Description: Package Specification; ComponentLink3URL: http://www.analog.com/static/imported-files/packages/PKG_PDF/LFCSP(CP)/CP_16_17.pdf
footprint ADI-CP-16-17_N (QFN, 16-Leads, Body 4x4mm, Pitch 0.65mm, Thermal Pad 2.60x2.60mm, IPC Medium Density)
footprint ADI-CP-16-17_L (QFN, 16-Leads, Body 4x4mm, Pitch 0.65mm, Thermal Pad 2.60x2.60mm, IPC High Density)
footprint ADI-CP-16-17_M (QFN, 16-Leads, Body 4x4mm, Pitch 0.65mm, Thermal Pad 2.60x2.60mm, IPC Low Density)
pins: 1 S1 "Source Terminal. This pin can be an input or an output.", 2 VSS (power) "Most Negative Power Supply Potential", 3 GND (power) "Ground (0 V) Reference.", 4 S4 "Source Terminal. This pin can be an input or an output.", 5 D4 "Drain Terminal. This pin can be an input or an output.", 6 IN4 (in) "Logic Control Input", 7 IN3 (in) "Logic Control Input", 8 D3 "Drain Terminal. This pin can be an input or an output.", 9 S3 "Source Terminal. This pin can be an input or an output.", 10 NC "No Connect. These pins are open", 11 VDD (power) "Most Positive Power Supply Potential.", 12 S2 "Source Terminal. This pin can be an input or an output.", 13 D2 "Drain Terminal. This pin can be an input or an output.", 14 IN2 (in) "Logic Control Input", 15 IN1 (in) "Logic Control Input", 16 D1 "Drain Terminal. This pin can be an input or an output.", 17 EP (power) "Exposed Pad. The exposed pad is connected internally. For increased reliability of the solder joints and maximum thermal capability, it is recommended that the pad be soldered to the substrate, VSS."

## ADG5212BRUZ
designator U?
High Voltage Latch-Up Proof, Quad SPST Switches, 160 Ohm Ron, 16-pin SOP (RU-16), Tube; Manufacturer: Analog Devices; PartNumber: ADG5212BRUZ; # Sw Functions: 4; Max Neg Supply: -22V; Max Pos Supply: +40V; Ron (ohms): 160, 140, 350, 150; t ON: 175ns, 155ns, 235ns, 190ns; DatasheetVersion: Rev. 0; PackageVersion: Nov-02; PackageReference: RU-16; PackageDescription: 16-Pin Thin Shrink Small Outline Package, Body 5 x 4.4 mm, Pitch 0.65 mm; Supplier 1: Digi-Key; Supplier Part Number 1: ADG5212BRUZ-ND; Supplier 2: Farnell; Supplier Part Number 2: 1903612; Supplier 3: Newark; Supplier Part Number 3: 55T1446; Supplier 4: Newark; Supplier Part Number 4: 47T4610; Supplier 5: Mouser; Supplier Part Number 5: 584-ADG5212BRUZ; Configuration: SPST; Packing: Tube; Mounting Technology: Surface Mount; Code_JEDEC: MO-153AB; ComponentLink1Description: Manufacturer URL; ComponentLink1URL: http://www.analog.com/en/index.html; ComponentLink2Description: Datasheet; ComponentLink2URL: http://www.analog.com/static/imported-files/data_sheets/ADG5212_5213.pdf; ComponentLink3Description: Package Specification; ComponentLink3URL: http:/www.analog.com/static/imported-files/packages/36244347913743854010197452789RU16.pdf
footprint ADI-RU-16_N (SOP, 16-Leads, Body 5x4.4mm, Pitch 0.65mm, IPC Medium Density)
footprint ADI-RU-16_L (SOP, 16-Leads, Body 5x4.4mm, Pitch 0.65mm, IPC High Density)
footprint ADI-RU-16_M (SOP, 16-Leads, Body 5x4.4mm, Pitch 0.65mm, IPC Low Density)
pins: 1 IN1 (in) "Logic Control Input.", 2 D1 "Drain Terminal. This pin can be an input or an output.", 3 S1 "Source Terminal. This pin can be an input or an output.", 4 VSS (power) "Most Negative Power Supply Potential.", 5 GND (power) "Ground (0 V) Reference.", 6 S4 "Source Terminal. This pin can be an input or an output.", 7 D4 "Drain Terminal. This pin can be an input or an output.", 8 IN4 (in) "Logic Control Input.", 9 IN3 (in) "Logic Control Input.", 10 D3 "Drain Terminal. This pin can be an input or an output.", 11 S3 "Source Terminal. This pin can be an input or an output.", 12 NC "No Connect. These pins are open.", 13 VDD (power) "Most Positive Power Supply Potential.", 14 S2 "Source Terminal. This pin can be an input or an output.", 15 D2 "Drain Terminal. This pin can be an input or an output.", 16 IN2 (in) "Logic Control Input."

## ADG5212BRUZ-RL7
designator U?
High Voltage Latch-Up Proof, Quad SPST Switches, 160 Ohm Ron, 16-pin SOP (RU-16), Reel; Manufacturer: Analog Devices; PartNumber: ADG5212BRUZ-RL7; # Sw Functions: 4; Max Neg Supply: -22V; Max Pos Supply: +40V; Ron (ohms): 160, 140, 350, 150; t ON: 175ns, 155ns, 235ns, 190ns; DatasheetVersion: Rev. 0; PackageVersion: Nov-02; PackageReference: RU-16; PackageDescription: 16-Pin Thin Shrink Small Outline Package, Body 5 x 4.4 mm, Pitch 0.65 mm; Supplier 1: Digi-Key; Supplier Part Number 1: ADG5212BRUZ-RL7-ND; Supplier 2: Mouser; Supplier Part Number 2: 584-ADG5212BRUZ-R7; Configuration: SPST; Packing: Reel; Mounting Technology: Surface Mount; Code_JEDEC: MO-153AB; ComponentLink1Description: Manufacturer URL; ComponentLink1URL: http://www.analog.com/en/index.html; ComponentLink2Description: Datasheet; ComponentLink2URL: http://www.analog.com/static/imported-files/data_sheets/ADG5212_5213.pdf; ComponentLink3Description: Package Specification; ComponentLink3URL: http:/www.analog.com/static/imported-files/packages/36244347913743854010197452789RU16.pdf
footprint ADI-RU-16_N (SOP, 16-Leads, Body 5x4.4mm, Pitch 0.65mm, IPC Medium Density)
footprint ADI-RU-16_L (SOP, 16-Leads, Body 5x4.4mm, Pitch 0.65mm, IPC High Density)
footprint ADI-RU-16_M (SOP, 16-Leads, Body 5x4.4mm, Pitch 0.65mm, IPC Low Density)
pins: 1 IN1 (in) "Logic Control Input.", 2 D1 "Drain Terminal. This pin can be an input or an output.", 3 S1 "Source Terminal. This pin can be an input or an output.", 4 VSS (power) "Most Negative Power Supply Potential.", 5 GND (power) "Ground (0 V) Reference.", 6 S4 "Source Terminal. This pin can be an input or an output.", 7 D4 "Drain Terminal. This pin can be an input or an output.", 8 IN4 (in) "Logic Control Input.", 9 IN3 (in) "Logic Control Input.", 10 D3 "Drain Terminal. This pin can be an input or an output.", 11 S3 "Source Terminal. This pin can be an input or an output.", 12 NC "No Connect. These pins are open.", 13 VDD (power) "Most Positive Power Supply Potential.", 14 S2 "Source Terminal. This pin can be an input or an output.", 15 D2 "Drain Terminal. This pin can be an input or an output.", 16 IN2 (in) "Logic Control Input."

## ADG5213BCPZ-RL7
designator U?
High Voltage Latch-Up Proof, Quad SPST Switches, 160 Ohm Ron, 16-pin QFN (CP-16-17), Reel; Manufacturer: Analog Devices; PartNumber: ADG5213BCPZ-RL7; # Sw Functions: 4; Max Neg Supply: -22V; Max Pos Supply: +40V; Ron (ohms): 160, 140, 350, 150; t ON: 175ns, 155ns, 235ns, 190ns; DatasheetVersion: Rev. 0; PackageVersion: 08-16-2010-C; PackageReference: CP-16-17; PackageDescription: 16-Pin Lead Frame Chip Scale Package, Body 4 x 4 mm, Pitch 0.65 mm; Supplier 1: Digi-Key; Supplier Part Number 1: ADG5213BCPZ-RL7TR-ND; Supplier 2: Digi-Key; Supplier Part Number 2: ADG5213BCPZ-RL7CT-ND; Supplier 3: Digi-Key; Supplier Part Number 3: ADG5213BCPZ-RL7DKR-ND; Supplier 4: Mouser; Supplier Part Number 4: 584-ADG5213BCPZ-R7; Configuration: SPST; Packing: Reel; Mounting Technology: Surface Mount; Code_JEDEC: MO-220-WGGC; ComponentLink1Description: Manufacturer URL; ComponentLink1URL: http://www.analog.com/en/index.html; ComponentLink2Description: Datasheet; ComponentLink2URL: http://www.analog.com/static/imported-files/data_sheets/ADG5212_5213.pdf; ComponentLink3Description: Package Specification; ComponentLink3URL: http://www.analog.com/static/imported-files/packages/PKG_PDF/LFCSP(CP)/CP_16_17.pdf
footprint ADI-CP-16-17_N (QFN, 16-Leads, Body 4x4mm, Pitch 0.65mm, Thermal Pad 2.60x2.60mm, IPC Medium Density)
footprint ADI-CP-16-17_L (QFN, 16-Leads, Body 4x4mm, Pitch 0.65mm, Thermal Pad 2.60x2.60mm, IPC High Density)
footprint ADI-CP-16-17_M (QFN, 16-Leads, Body 4x4mm, Pitch 0.65mm, Thermal Pad 2.60x2.60mm, IPC Low Density)
pins: 1 S1 "Source Terminal. This pin can be an input or an output.", 2 VSS (power) "Most Negative Power Supply Potential.", 3 GND (power) "Ground (0 V) Reference.", 4 S4 "Source Terminal. This pin can be an input or an output.", 5 D4 "Drain Terminal. This pin can be an input or an output.", 6 IN4 (in) "Logic Control Input", 7 IN3 (in) "Logic Control Input", 8 D3 "Drain Terminal. This pin can be an input or an output.", 9 S3 "Source Terminal. This pin can be an input or an output.", 10 NC "No Connect. These pins are open.", 11 VDD (power) "Most Positive Power Supply Potential", 12 S2 "Source Terminal. This pin can be an input or an output.", 13 D2 "Drain Terminal. This pin can be an input or an output.", 14 IN2 (in) "Logic Control Input", 15 IN1 (in) "Logic Control Input", 16 D1 "Drain Terminal. This pin can be an input or an output.", 17 EP (power) "Exposed Pad. The exposed pad is connected internally. For increased reliability of the solder joints and maximum thermal capability, it is recommended that the pad be soldered to the substrate, VSS."